# EAGLE library part ISP_HEADER (library PFOP)
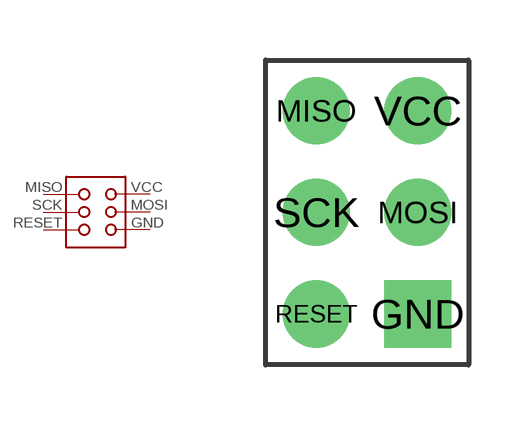
[diagram p1: symbol with the pads of ISP_HEADER; footprint ISP_HEADER]

Designator prefix -

## ISP_HEADER  [ISP_HEADER]
GND  GND
MISO  MISO
MOSI  MOSI
RESET  RESET
SCK  SCK
VCC  VCC

## Footprint ISP_HEADER (pad centres in mm)
drill 1 pad 1.676 square: GND 1.27,-2.54
drill 1 pad 1.676: MISO -1.27,2.54; MOSI 1.27,0; RESET -1.27,-2.54; SCK -1.27,0; VCC 1.27,2.54